# Altium footprint library Package_TO_SOT_THT.PcbLib: 236 footprints (part 12 of 15)
Each footprint in its own frame and in the unit in brackets; x right, y up, seen from the top. Pads: shape width x height; smd on the part's side, far side on the other; paste and mask are expansions set on the pad; w line width, h text height; cw(c..) or ccw(c..) is an arc to the next point about the centre after c.
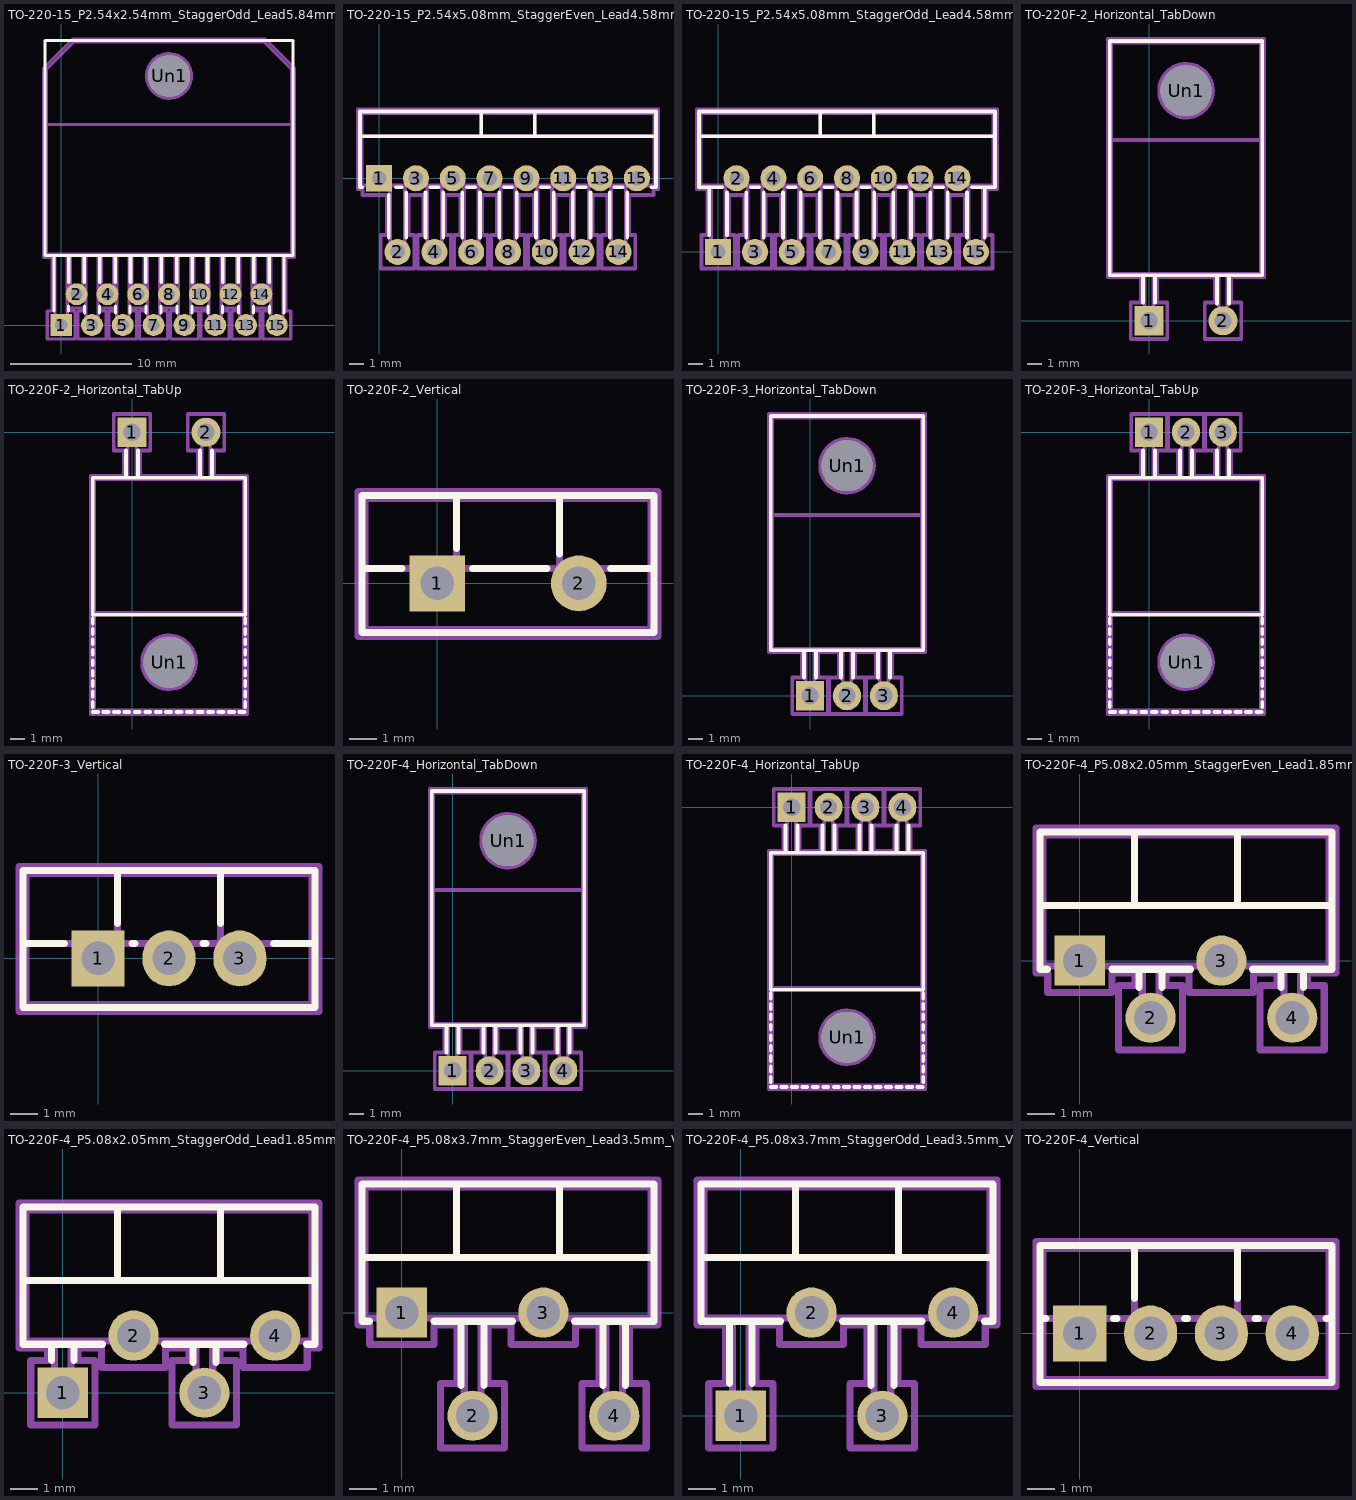
[diagram p11: the footprints below, top view; thin cyan lines are the x and y axes]

## TO-220-15_P2.54x2.54mm_StaggerOdd_Lead5.84mm_TabDown [mm]
pads (16):
  rect 1.8x1.8 hole 1: 1(0,0)
  round 1.8 hole 1: 2(1.27,2.54) 3(2.54,0) 4(3.81,2.54) 5(5.08,0) 6(6.35,2.54) 7(7.62,0) 8(8.89,2.54) 9(10.16,0) 10(11.43,2.54) 11(12.7,0) 12(13.97,2.54) 13(15.24,0) 14(16.51,2.54) 15(17.78,0)
  round 3.5 hole 3.5: Un1(8.89,20.54)
F.SilkS:
  lines w0.254: -0.61,1.16 -0.61,5.73 ; 0.61,1.16 0.61,1.586 ; 0.61,3.494 0.61,5.73 ; 0.66,3.527 0.66,5.73 ; 1.88,3.527 1.88,5.73 ; 1.93,0.987 1.93,1.586 ; 1.93,3.494 1.93,5.73 ; 3.15,0.987 3.15,1.586 ; 3.15,3.494 3.15,5.73 ; 3.2,3.527 3.2,5.73 ; 4.42,3.527 4.42,5.73 ; 4.47,0.987 4.47,1.586 ; 4.47,3.494 4.47,5.73 ; 5.69,0.987 5.69,1.586 ; 5.69,3.494 5.69,5.73 ; 5.74,3.527 5.74,5.73 ; 6.96,3.527 6.96,5.73 ; 7.01,0.987 7.01,1.586 ; 7.01,3.494 7.01,5.73 ; 8.23,0.987 8.23,1.586 ; 8.23,3.494 8.23,5.73 ; 8.28,3.527 8.28,5.73 ; 9.5,3.527 9.5,5.73 ; 9.55,0.987 9.55,1.586 ; 9.55,3.494 9.55,5.73 ; 10.77,0.987 10.77,1.586 ; 10.77,3.494 10.77,5.73 ; 10.82,3.527 10.82,5.73 ; 12.04,3.527 12.04,5.73 ; 12.09,0.987 12.09,1.586 ; 12.09,3.494 12.09,5.73 ; 13.31,0.987 13.31,1.586 ; 13.31,3.494 13.31,5.73 ; 13.36,3.527 13.36,5.73 ; 14.58,3.527 14.58,5.73 ; 14.63,0.987 14.63,1.586 ; 14.63,3.494 14.63,5.73 ; 15.85,0.987 15.85,1.586 ; 15.85,3.494 15.85,5.73 ; 15.9,3.527 15.9,5.73 ; 17.12,3.527 17.12,5.73 ; 17.17,0.987 17.17,1.586 ; 17.17,3.494 17.17,5.73 ; 18.39,0.987 18.39,5.73 ; -1.32,5.73 -1.32,23.45 19.1,23.45 19.1,5.73 -1.32,5.73
F.Fab:
  circle w0.254: c8.89,20.54 r1.85
  lines w0.254: -1.21,16.54 -1.21,21.09 1.04,23.34 16.74,23.34 18.99,21.09 18.99,16.54 ; -1.21,16.54 18.99,16.54 ; -1.21,16.54 -1.21,5.84 18.99,5.84 18.99,16.54 ; -1.21,16.54 18.99,16.54 ; -0.5,0 -0.5,5.84 0.5,5.84 0.5,0 -0.5,0 ; 0.77,2.54 0.77,5.84 1.77,5.84 1.77,2.54 0.77,2.54 ; 2.04,0 2.04,5.84 3.04,5.84 3.04,0 2.04,0 ; 3.31,2.54 3.31,5.84 4.31,5.84 4.31,2.54 3.31,2.54 ; 4.58,0 4.58,5.84 5.58,5.84 5.58,0 4.58,0 ; 5.85,2.54 5.85,5.84 6.85,5.84 6.85,2.54 5.85,2.54 ; 7.12,0 7.12,5.84 8.12,5.84 8.12,0 7.12,0 ; 8.39,2.54 8.39,5.84 9.39,5.84 9.39,2.54 8.39,2.54 ; 9.66,0 9.66,5.84 10.66,5.84 10.66,0 9.66,0 ; 10.93,2.54 10.93,5.84 11.93,5.84 11.93,2.54 10.93,2.54 ; 12.2,0 12.2,5.84 13.2,5.84 13.2,0 12.2,0 ; 13.47,2.54 13.47,5.84 14.47,5.84 14.47,2.54 13.47,2.54 ; 14.74,0 14.74,5.84 15.74,5.84 15.74,0 14.74,0 ; 16.01,2.54 16.01,5.84 17.01,5.84 17.01,2.54 16.01,2.54 ; 17.28,0 17.28,5.84 18.28,5.84 18.28,0 17.28,0
  text "'.Designator'" at 4.843,10.38 h1
F.CrtYd:
  lines w0.254: -1.46,5.59 -1.46,21.2 0.93,23.59 16.85,23.59 19.24,21.2 19.24,5.59 18.53,5.59 18.53,1.15 18.93,1.15 18.93,-1.15 16.62,-1.15 16.62,1.15 17.02,1.15 17.02,1.39 15.99,1.39 15.99,1.15 16.39,1.15 16.39,-1.15 14.08,-1.15 14.08,1.15 14.48,1.15 14.48,1.39 13.45,1.39 13.45,1.15 13.85,1.15 13.85,-1.15 11.54,-1.15 11.54,1.15 11.94,1.15 11.94,1.39 10.91,1.39 10.91,1.15 11.31,1.15 11.31,-1.15 9,-1.15 9,1.15 9.4,1.15 9.4,1.39 8.37,1.39 8.37,1.15 8.77,1.15 8.77,-1.15 6.46,-1.15 6.46,1.15 6.86,1.15 6.86,1.39 5.83,1.39 5.83,1.15 6.23,1.15 6.23,-1.15 3.92,-1.15 3.92,1.15 4.33,1.15 4.33,1.39 3.29,1.39 3.29,1.15 3.69,1.15 3.69,-1.15 1.39,-1.15 1.39,1.15 1.79,1.15 1.79,1.39 0.75,1.39 0.75,1.15 1.15,1.15 1.15,-1.15 -1.15,-1.15 -1.15,1.15 -0.75,1.15 -0.75,5.59 -1.46,5.59

## TO-220-15_P2.54x5.08mm_StaggerEven_Lead4.58mm_Vertical [mm]
pads (15):
  rect 1.8x1.8 hole 1: 1(0,0)
  round 1.8 hole 1: 2(1.27,-5.08) 3(2.54,0) 4(3.81,-5.08) 5(5.08,0) 6(6.35,-5.08) 7(7.62,0) 8(8.89,-5.08) 9(10.16,0) 10(11.43,-5.08) 11(12.7,0) 12(13.97,-5.08) 13(15.24,0) 14(16.51,-5.08) 15(17.78,0)
F.SilkS:
  lines w0.254: -1.32,2.9 19.1,2.9 ; -1.16,-0.61 -1.32,-0.61 -1.32,4.61 19.1,4.61 19.1,-0.61 18.767,-0.61 ; 0.66,-4.093 0.66,-1.16 ; 1.16,-0.61 1.553,-0.61 ; 1.88,-4.093 1.88,-0.954 ; 3.2,-4.093 3.2,-0.954 ; 3.527,-0.61 4.093,-0.61 ; 4.42,-4.093 4.42,-0.954 ; 5.74,-4.093 5.74,-0.954 ; 6.067,-0.61 6.633,-0.61 ; 6.96,-4.093 6.96,-0.954 ; 7.04,2.9 7.04,4.61 ; 8.28,-4.093 8.28,-0.954 ; 8.607,-0.61 9.173,-0.61 ; 9.5,-4.093 9.5,-0.954 ; 10.74,2.9 10.74,4.61 ; 10.82,-4.093 10.82,-0.954 ; 11.147,-0.61 11.713,-0.61 ; 12.04,-4.093 12.04,-0.954 ; 13.36,-4.093 13.36,-0.954 ; 13.687,-0.61 14.253,-0.61 ; 14.58,-4.093 14.58,-0.954 ; 15.9,-4.093 15.9,-0.954 ; 16.227,-0.61 16.793,-0.61 ; 17.12,-4.093 17.12,-0.954
F.Fab:
  lines w0.254: -1.21,2.9 18.99,2.9 ; 7.04,2.9 7.04,4.5 ; 10.74,2.9 10.74,4.5 ; -1.21,-0.5 -1.21,4.5 18.99,4.5 18.99,-0.5 -1.21,-0.5 ; 0.77,-5.08 0.77,-0.5 1.77,-0.5 1.77,-5.08 0.77,-5.08 ; 3.31,-5.08 3.31,-0.5 4.31,-0.5 4.31,-5.08 3.31,-5.08 ; 5.85,-5.08 5.85,-0.5 6.85,-0.5 6.85,-5.08 5.85,-5.08 ; 8.39,-5.08 8.39,-0.5 9.39,-0.5 9.39,-5.08 8.39,-5.08 ; 10.93,-5.08 10.93,-0.5 11.93,-0.5 11.93,-5.08 10.93,-5.08 ; 13.47,-5.08 13.47,-0.5 14.47,-0.5 14.47,-5.08 13.47,-5.08 ; 16.01,-5.08 16.01,-0.5 17.01,-0.5 17.01,-5.08 16.01,-5.08
  text "'.Designator'" at 4.843,1.16 h1
F.CrtYd:
  lines w0.254: -1.46,-0.75 -1.46,4.75 19.24,4.75 19.24,-0.75 18.93,-0.75 18.93,-1.15 17.26,-1.15 17.26,-3.92 17.66,-3.92 17.66,-6.23 15.35,-6.23 15.35,-3.92 15.75,-3.92 15.75,-1.15 14.72,-1.15 14.72,-3.92 15.12,-3.92 15.12,-6.23 12.81,-6.23 12.81,-3.92 13.21,-3.92 13.21,-1.15 12.18,-1.15 12.18,-3.92 12.58,-3.92 12.58,-6.23 10.27,-6.23 10.27,-3.92 10.67,-3.92 10.67,-1.15 9.64,-1.15 9.64,-3.92 10.04,-3.92 10.04,-6.23 7.73,-6.23 7.73,-3.92 8.13,-3.92 8.13,-1.15 7.1,-1.15 7.1,-3.92 7.5,-3.92 7.5,-6.23 5.19,-6.23 5.19,-3.92 5.6,-3.92 5.6,-1.15 4.56,-1.15 4.56,-3.92 4.96,-3.92 4.96,-6.23 2.66,-6.23 2.66,-3.92 3.06,-3.92 3.06,-1.15 2.02,-1.15 2.02,-3.92 2.42,-3.92 2.42,-6.23 0.12,-6.23 0.12,-3.92 0.52,-3.92 0.52,-1.15 -1.15,-1.15 -1.15,-0.75 -1.46,-0.75

## TO-220-15_P2.54x5.08mm_StaggerOdd_Lead4.58mm_Vertical [mm]
pads (15):
  rect 1.8x1.8 hole 1: 1(0,0)
  round 1.8 hole 1: 2(1.27,5.08) 3(2.54,0) 4(3.81,5.08) 5(5.08,0) 6(6.35,5.08) 7(7.62,0) 8(8.89,5.08) 9(10.16,0) 10(11.43,5.08) 11(12.7,0) 12(13.97,5.08) 13(15.24,0) 14(16.51,5.08) 15(17.78,0)
F.SilkS:
  lines w0.254: -1.32,7.98 19.1,7.98 ; -0.61,1.16 -0.61,4.47 ; 0.283,4.47 -1.32,4.47 -1.32,9.69 19.1,9.69 19.1,4.47 17.497,4.47 ; 0.61,1.16 0.61,4.126 ; 1.93,0.987 1.93,4.126 ; 2.257,4.47 2.823,4.47 ; 3.15,0.987 3.15,4.126 ; 4.47,0.987 4.47,4.126 ; 4.797,4.47 5.363,4.47 ; 5.69,0.987 5.69,4.126 ; 7.01,0.987 7.01,4.126 ; 7.04,7.98 7.04,9.69 ; 7.337,4.47 7.903,4.47 ; 8.23,0.987 8.23,4.126 ; 9.55,0.987 9.55,4.126 ; 9.877,4.47 10.443,4.47 ; 10.74,7.98 10.74,9.69 ; 10.77,0.987 10.77,4.126 ; 12.09,0.987 12.09,4.126 ; 12.417,4.47 12.983,4.47 ; 13.31,0.987 13.31,4.126 ; 14.63,0.987 14.63,4.126 ; 14.957,4.47 15.523,4.47 ; 15.85,0.987 15.85,4.126 ; 17.17,0.987 17.17,4.126 ; 18.39,0.987 18.39,4.47
F.Fab:
  lines w0.254: -1.21,7.98 18.99,7.98 ; 7.04,7.98 7.04,9.58 ; 10.74,7.98 10.74,9.58 ; -1.21,4.58 -1.21,9.58 18.99,9.58 18.99,4.58 -1.21,4.58 ; -0.5,0 -0.5,4.58 0.5,4.58 0.5,0 -0.5,0 ; 2.04,0 2.04,4.58 3.04,4.58 3.04,0 2.04,0 ; 4.58,0 4.58,4.58 5.58,4.58 5.58,0 4.58,0 ; 7.12,0 7.12,4.58 8.12,4.58 8.12,0 7.12,0 ; 9.66,0 9.66,4.58 10.66,4.58 10.66,0 9.66,0 ; 12.2,0 12.2,4.58 13.2,4.58 13.2,0 12.2,0 ; 14.74,0 14.74,4.58 15.74,4.58 15.74,0 14.74,0 ; 17.28,0 17.28,4.58 18.28,4.58 18.28,0 17.28,0
  text "'.Designator'" at 4.843,6.24 h1
F.CrtYd:
  lines w0.254: -1.46,4.33 -1.46,9.83 19.24,9.83 19.24,4.33 18.53,4.33 18.53,1.16 18.93,1.16 18.93,-1.15 16.62,-1.15 16.62,1.16 17.02,1.16 17.02,3.93 15.99,3.93 15.99,1.16 16.39,1.16 16.39,-1.15 14.08,-1.15 14.08,1.16 14.48,1.16 14.48,3.93 13.45,3.93 13.45,1.16 13.85,1.16 13.85,-1.15 11.54,-1.15 11.54,1.16 11.94,1.16 11.94,3.93 10.91,3.93 10.91,1.16 11.31,1.16 11.31,-1.15 9,-1.15 9,1.16 9.4,1.16 9.4,3.93 8.37,3.93 8.37,1.16 8.77,1.16 8.77,-1.15 6.46,-1.15 6.46,1.16 6.86,1.16 6.86,3.93 5.83,3.93 5.83,1.16 6.23,1.16 6.23,-1.15 3.92,-1.15 3.92,1.16 4.33,1.16 4.33,3.93 3.29,3.93 3.29,1.16 3.69,1.16 3.69,-1.15 1.39,-1.15 1.39,1.16 1.79,1.16 1.79,3.93 0.75,3.93 0.75,1.16 1.15,1.16 1.15,-1.15 -1.15,-1.15 -1.15,1.16 -0.75,1.16 -0.75,4.33 -1.46,4.33

## TO-220F-2_Horizontal_TabDown [mm]
pads (3):
  rect 2x2 hole 1.2: 1(0,0)
  round 2 hole 1.2: 2(5.08,0)
  round 3.5 hole 3.5: Un1(2.54,15.8)
F.SilkS:
  lines w0.254: -0.41,1.26 -0.41,3.12 ; 0.41,1.26 0.41,3.12 ; 4.67,1.191 4.67,3.12 ; 5.49,1.191 5.49,3.12 ; -2.7,3.12 -2.7,19.21 7.78,19.21 7.78,3.12 -2.7,3.12
F.Fab:
  circle w0.254: c2.54,15.8 r1.85
  lines w0.254: -2.59,12.42 -2.59,19.1 7.67,19.1 7.67,12.42 ; -2.59,12.42 7.67,12.42 ; -2.59,12.42 -2.59,3.23 7.67,3.23 7.67,12.42 ; -2.59,12.42 7.67,12.42 ; -0.3,0 -0.3,3.23 0.3,3.23 0.3,0 -0.3,0 ; 4.78,0 4.78,3.23 5.38,3.23 5.38,0 4.78,0
  text "'.Designator'" at -1.507,8.21 h1
F.CrtYd:
  lines w0.254: -2.84,2.98 -2.84,19.35 7.92,19.35 7.92,2.98 5.63,2.98 5.63,1.25 6.33,1.25 6.33,-1.25 3.83,-1.25 3.83,1.25 4.53,1.25 4.53,2.98 0.55,2.98 0.55,1.25 1.25,1.25 1.25,-1.25 -1.25,-1.25 -1.25,1.25 -0.55,1.25 -0.55,2.98 -2.84,2.98

## TO-220F-2_Horizontal_TabUp [mm]
pads (3):
  rect 2x2 hole 1.2: 1(0,0)
  round 2 hole 1.2: 2(5.08,0)
  round 3.5 hole 3.5: Un1(2.54,-15.8)
F.SilkS:
  lines w0.254: -2.7,-19.21 -2.34,-19.21 ; -2.7,-18.89 -2.7,-18.53 ; -2.7,-18.17 -2.7,-17.81 ; -2.7,-17.45 -2.7,-17.09 ; -2.7,-16.73 -2.7,-16.37 ; -2.7,-16.01 -2.7,-15.65 ; -2.7,-15.29 -2.7,-14.93 ; -2.7,-14.57 -2.7,-14.21 ; -2.7,-13.85 -2.7,-13.49 ; -2.7,-13.13 -2.7,-12.77 ; -1.98,-19.21 -1.62,-19.21 ; -1.26,-19.21 -0.9,-19.21 ; -0.54,-19.21 -0.18,-19.21 ; -0.41,-3.12 -0.41,-1.26 ; 0.18,-19.21 0.54,-19.21 ; 0.41,-3.12 0.41,-1.26 ; 0.9,-19.21 1.26,-19.21 ; 1.62,-19.21 1.98,-19.21 ; 2.34,-19.21 2.7,-19.21 ; 3.06,-19.21 3.42,-19.21 ; 3.78,-19.21 4.14,-19.21 ; 4.5,-19.21 4.86,-19.21 ; 4.67,-3.12 4.67,-1.26 ; 5.22,-19.21 5.58,-19.21 ; 5.49,-3.12 5.49,-1.26 ; 5.94,-19.21 6.3,-19.21 ; 6.66,-19.21 7.02,-19.21 ; 7.38,-19.21 7.74,-19.21 ; 7.78,-18.89 7.78,-18.53 ; 7.78,-18.17 7.78,-17.81 ; 7.78,-17.45 7.78,-17.09 ; 7.78,-16.73 7.78,-16.37 ; 7.78,-16.01 7.78,-15.65 ; 7.78,-15.29 7.78,-14.93 ; 7.78,-14.57 7.78,-14.21 ; 7.78,-13.85 7.78,-13.49 ; 7.78,-13.13 7.78,-12.77 ; -2.7,-12.53 7.78,-12.53 7.78,-3.12 -2.7,-3.12 -2.7,-12.53
F.Fab:
  circle w0.254: c2.54,-15.8 r1.85
  lines w0.254: -2.59,-12.42 7.67,-12.42 ; -2.59,-12.42 -2.59,-19.1 7.67,-19.1 7.67,-12.42 ; -2.59,-12.42 7.67,-12.42 ; -2.59,-12.42 -2.59,-3.23 7.67,-3.23 7.67,-12.42 ; -0.3,-3.23 0.3,-3.23 0.3,0 -0.3,0 -0.3,-3.23 ; 4.78,-3.23 5.38,-3.23 5.38,0 4.78,0 4.78,-3.23
  text "'.Designator'" at -1.507,-9.89 h1
F.CrtYd:
  lines w0.254: -2.84,-19.35 7.92,-19.35 7.92,-2.98 5.63,-2.98 5.63,-1.25 6.33,-1.25 6.33,1.25 3.83,1.25 3.83,-1.25 4.53,-1.25 4.53,-2.98 0.55,-2.98 0.55,-1.25 1.25,-1.25 1.25,1.25 -1.25,1.25 -1.25,-1.25 -0.55,-1.25 -0.55,-2.98 -2.84,-2.98 -2.84,-19.35

## TO-220F-2_Vertical [mm]
pads (2):
  rect 2x2 hole 1.2: 1(0,0)
  round 2 hole 1.2: 2(5.08,0)
F.SilkS:
  lines w0.254: -2.7,0.527 -1.26,0.527 ; 0.69,1.26 0.69,3.157 ; 1.26,0.527 3.936,0.527 ; 4.39,1.054 4.39,3.157 ; 6.224,0.527 7.78,0.527 ; -2.7,-1.763 -2.7,3.157 7.78,3.157 7.78,-1.763 -2.7,-1.763
F.Fab:
  lines w0.254: -2.59,0.527 7.67,0.527 ; 0.69,0.527 0.69,3.047 ; 4.39,0.527 4.39,3.047 ; -2.59,-1.653 -2.59,3.047 7.67,3.047 7.67,-1.653 -2.59,-1.653
  text "'.Designator'" at -1.507,-0.14 h1
F.CrtYd:
  lines w0.254: -2.84,-1.91 -2.84,3.3 7.92,3.3 7.92,-1.91 -2.84,-1.91
3D body "TO-220F-2_Vertical.step": height 19.1, standoff -9.75, extent -2.54,-1.415 7.62,3.285

## TO-220F-3_Horizontal_TabDown [mm]
pads (4):
  rect 1.905x2 hole 1.2: 1(0,0)
  rrect100% 1.905x2 hole 1.2: 2(2.54,0) 3(5.08,0)
  round 3.5 hole 3.5: Un1(2.54,15.8)
F.SilkS:
  lines w0.254: -0.41,1.26 -0.41,3.12 ; 0.41,1.26 0.41,3.12 ; 2.13,1.26 2.13,3.12 ; 2.95,1.26 2.95,3.12 ; 4.67,1.26 4.67,3.12 ; 5.49,1.26 5.49,3.12 ; -2.7,3.12 7.78,3.12 7.78,19.21 -2.7,19.21 -2.7,3.12
F.Fab:
  circle w0.254: c2.54,15.8 r1.85
  lines w0.254: -2.59,12.42 7.67,12.42 ; -2.59,12.42 -2.59,3.23 7.67,3.23 7.67,12.42 ; -2.59,12.42 7.67,12.42 ; -2.59,12.42 -2.59,19.1 7.67,19.1 7.67,12.42 ; -0.3,0 0.3,0 0.3,3.23 -0.3,3.23 -0.3,0 ; 2.24,0 2.84,0 2.84,3.23 2.24,3.23 2.24,0 ; 4.78,0 5.38,0 5.38,3.23 4.78,3.23 4.78,0
  text "'.Designator'" at -1.507,8.21 h1
F.CrtYd:
  lines w0.254: -2.84,2.98 -0.55,2.98 -0.55,1.25 -1.21,1.25 -1.21,-1.25 1.21,-1.25 1.21,1.25 0.55,1.25 0.55,2.98 1.99,2.98 1.99,1.25 1.33,1.25 1.33,-1.25 3.75,-1.25 3.75,1.25 3.09,1.25 3.09,2.98 4.53,2.98 4.53,1.25 3.87,1.25 3.87,-1.25 6.29,-1.25 6.29,1.25 5.63,1.25 5.63,2.98 7.92,2.98 7.92,19.35 -2.84,19.35 -2.84,2.98

## TO-220F-3_Horizontal_TabUp [mm]
pads (4):
  rect 1.905x2 hole 1.2: 1(0,0)
  rrect100% 1.905x2 hole 1.2: 2(2.54,0) 3(5.08,0)
  round 3.5 hole 3.5: Un1(2.54,-15.8)
F.SilkS:
  lines w0.254: -2.7,-19.21 -2.34,-19.21 ; -2.7,-18.89 -2.7,-18.53 ; -2.7,-18.17 -2.7,-17.81 ; -2.7,-17.45 -2.7,-17.09 ; -2.7,-16.73 -2.7,-16.37 ; -2.7,-16.01 -2.7,-15.65 ; -2.7,-15.29 -2.7,-14.93 ; -2.7,-14.57 -2.7,-14.21 ; -2.7,-13.85 -2.7,-13.49 ; -2.7,-13.13 -2.7,-12.77 ; -1.98,-19.21 -1.62,-19.21 ; -1.26,-19.21 -0.9,-19.21 ; -0.54,-19.21 -0.18,-19.21 ; -0.41,-3.12 -0.41,-1.26 ; 0.18,-19.21 0.54,-19.21 ; 0.41,-3.12 0.41,-1.26 ; 0.9,-19.21 1.26,-19.21 ; 1.62,-19.21 1.98,-19.21 ; 2.13,-3.12 2.13,-1.26 ; 2.34,-19.21 2.7,-19.21 ; 2.95,-3.12 2.95,-1.26 ; 3.06,-19.21 3.42,-19.21 ; 3.78,-19.21 4.14,-19.21 ; 4.5,-19.21 4.86,-19.21 ; 4.67,-3.12 4.67,-1.26 ; 5.22,-19.21 5.58,-19.21 ; 5.49,-3.12 5.49,-1.26 ; 5.94,-19.21 6.3,-19.21 ; 6.66,-19.21 7.02,-19.21 ; 7.38,-19.21 7.74,-19.21 ; 7.78,-18.89 7.78,-18.53 ; 7.78,-18.17 7.78,-17.81 ; 7.78,-17.45 7.78,-17.09 ; 7.78,-16.73 7.78,-16.37 ; 7.78,-16.01 7.78,-15.65 ; 7.78,-15.29 7.78,-14.93 ; 7.78,-14.57 7.78,-14.21 ; 7.78,-13.85 7.78,-13.49 ; 7.78,-13.13 7.78,-12.77 ; -2.7,-12.53 7.78,-12.53 7.78,-3.12 -2.7,-3.12 -2.7,-12.53
F.Fab:
  circle w0.254: c2.54,-15.8 r1.85
  lines w0.254: -2.59,-12.42 7.67,-12.42 ; -2.59,-12.42 -2.59,-19.1 7.67,-19.1 7.67,-12.42 ; -2.59,-12.42 7.67,-12.42 ; -2.59,-12.42 -2.59,-3.23 7.67,-3.23 7.67,-12.42 ; -0.3,-3.23 0.3,-3.23 0.3,0 -0.3,0 -0.3,-3.23 ; 2.24,-3.23 2.84,-3.23 2.84,0 2.24,0 2.24,-3.23 ; 4.78,-3.23 5.38,-3.23 5.38,0 4.78,0 4.78,-3.23
  text "'.Designator'" at -1.507,-9.89 h1
F.CrtYd:
  lines w0.254: -2.84,-19.35 7.92,-19.35 7.92,-2.98 5.63,-2.98 5.63,-1.25 6.29,-1.25 6.29,1.25 3.87,1.25 3.87,-1.25 4.53,-1.25 4.53,-2.98 3.09,-2.98 3.09,-1.25 3.75,-1.25 3.75,1.25 1.33,1.25 1.33,-1.25 1.99,-1.25 1.99,-2.98 0.55,-2.98 0.55,-1.25 1.21,-1.25 1.21,1.25 -1.21,1.25 -1.21,-1.25 -0.55,-1.25 -0.55,-2.98 -2.84,-2.98 -2.84,-19.35

## TO-220F-3_Vertical [mm]
pads (3):
  rect 1.905x2 hole 1.2: 1(0,0)
  rrect100% 1.905x2 hole 1.2: 2(2.54,0) 3(5.08,0)
F.SilkS:
  lines w0.254: -2.7,0.527 -1.212,0.527 ; 0.69,1.26 0.69,3.157 ; 1.212,0.527 1.327,0.528 ; 3.752,0.528 3.867,0.528 ; 4.39,1.26 4.39,3.157 ; 6.292,0.528 7.78,0.527 ; -2.7,-1.763 -2.7,3.157 7.78,3.157 7.78,-1.763 -2.7,-1.763
F.Fab:
  lines w0.254: -2.59,0.527 7.67,0.527 ; 0.69,0.527 0.69,3.047 ; 4.39,0.527 4.39,3.047 ; -2.59,-1.653 -2.59,3.047 7.67,3.047 7.67,-1.653 -2.59,-1.653
  text "'.Designator'" at -1.507,-0.14 h1
F.CrtYd:
  lines w0.254: -2.84,-1.91 -2.84,3.3 7.92,3.3 7.92,-1.91 -2.84,-1.91
3D body "TO-220F-3_Vertical.step": height 19.1, standoff -9.75, extent -2.54,-1.415 7.62,3.285

## TO-220F-4_Horizontal_TabDown [mm]
pads (5):
  rect 1.905x2 hole 1.2: 1(0,0)
  rrect100% 1.905x2 hole 1.2: 2(2.54,0) 3(5.08,0) 4(7.62,0)
  round 3.5 hole 3.5: Un1(3.81,15.8)
F.SilkS:
  lines w0.254: -0.41,1.26 -0.41,3.12 ; 0.41,1.26 0.41,3.12 ; 2.13,1.26 2.13,3.12 ; 2.95,1.26 2.95,3.12 ; 4.67,1.26 4.67,3.12 ; 5.49,1.26 5.49,3.12 ; 7.21,1.26 7.21,3.12 ; 8.03,1.26 8.03,3.12 ; -1.43,3.12 -1.43,19.21 9.05,19.21 9.05,3.12 -1.43,3.12
F.Fab:
  circle w0.254: c3.81,15.8 r1.85
  lines w0.254: -1.32,12.42 -1.32,19.1 8.94,19.1 8.94,12.42 ; -1.32,12.42 8.94,12.42 ; -1.32,12.42 -1.32,3.23 8.94,3.23 8.94,12.42 ; -1.32,12.42 8.94,12.42 ; -0.3,0 -0.3,3.23 0.3,3.23 0.3,0 -0.3,0 ; 2.24,0 2.24,3.23 2.84,3.23 2.84,0 2.24,0 ; 4.78,0 4.78,3.23 5.38,3.23 5.38,0 4.78,0 ; 7.32,0 7.32,3.23 7.92,3.23 7.92,0 7.32,0
  text "'.Designator'" at -0.237,8.21 h1
F.CrtYd:
  lines w0.254: -1.57,2.98 -1.57,19.35 9.19,19.35 9.19,2.98 8.17,2.98 8.17,1.25 8.83,1.25 8.83,-1.25 6.41,-1.25 6.41,1.25 7.07,1.25 7.07,2.98 5.63,2.98 5.63,1.25 6.29,1.25 6.29,-1.25 3.87,-1.25 3.87,1.25 4.53,1.25 4.53,2.98 3.09,2.98 3.09,1.25 3.75,1.25 3.75,-1.25 1.33,-1.25 1.33,1.25 1.99,1.25 1.99,2.98 0.55,2.98 0.55,1.25 1.21,1.25 1.21,-1.25 -1.21,-1.25 -1.21,1.25 -0.55,1.25 -0.55,2.98 -1.57,2.98

## TO-220F-4_Horizontal_TabUp [mm]
pads (5):
  rect 1.905x2 hole 1.2: 1(0,0)
  rrect100% 1.905x2 hole 1.2: 2(2.54,0) 3(5.08,0) 4(7.62,0)
  round 3.5 hole 3.5: Un1(3.81,-15.8)
F.SilkS:
  lines w0.254: -1.43,-19.21 -1.07,-19.21 ; -1.43,-18.89 -1.43,-18.53 ; -1.43,-18.17 -1.43,-17.81 ; -1.43,-17.45 -1.43,-17.09 ; -1.43,-16.73 -1.43,-16.37 ; -1.43,-16.01 -1.43,-15.65 ; -1.43,-15.29 -1.43,-14.93 ; -1.43,-14.57 -1.43,-14.21 ; -1.43,-13.85 -1.43,-13.49 ; -1.43,-13.13 -1.43,-12.77 ; -0.71,-19.21 -0.35,-19.21 ; -0.41,-3.12 -0.41,-1.26 ; 0.01,-19.21 0.37,-19.21 ; 0.41,-3.12 0.41,-1.26 ; 0.73,-19.21 1.09,-19.21 ; 1.45,-19.21 1.81,-19.21 ; 2.13,-3.12 2.13,-1.26 ; 2.17,-19.21 2.53,-19.21 ; 2.89,-19.21 3.25,-19.21 ; 2.95,-3.12 2.95,-1.26 ; 3.61,-19.21 3.97,-19.21 ; 4.33,-19.21 4.69,-19.21 ; 4.67,-3.12 4.67,-1.26 ; 5.05,-19.21 5.41,-19.21 ; 5.49,-3.12 5.49,-1.26 ; 5.77,-19.21 6.13,-19.21 ; 6.49,-19.21 6.85,-19.21 ; 7.21,-19.21 7.57,-19.21 ; 7.21,-3.12 7.21,-1.26 ; 7.93,-19.21 8.29,-19.21 ; 8.03,-3.12 8.03,-1.26 ; 8.65,-19.21 9.01,-19.21 ; 9.05,-18.89 9.05,-18.53 ; 9.05,-18.17 9.05,-17.81 ; 9.05,-17.45 9.05,-17.09 ; 9.05,-16.73 9.05,-16.37 ; 9.05,-16.01 9.05,-15.65 ; 9.05,-15.29 9.05,-14.93 ; 9.05,-14.57 9.05,-14.21 ; 9.05,-13.85 9.05,-13.49 ; 9.05,-13.13 9.05,-12.77 ; -1.43,-12.53 -1.43,-3.12 9.05,-3.12 9.05,-12.53 -1.43,-12.53
F.Fab:
  circle w0.254: c3.81,-15.8 r1.85
  lines w0.254: -1.32,-12.42 -1.32,-3.23 8.94,-3.23 8.94,-12.42 ; -1.32,-12.42 8.94,-12.42 ; -1.32,-12.42 -1.32,-19.1 8.94,-19.1 8.94,-12.42 ; -1.32,-12.42 8.94,-12.42 ; -0.3,-3.23 -0.3,0 0.3,0 0.3,-3.23 -0.3,-3.23 ; 2.24,-3.23 2.24,0 2.84,0 2.84,-3.23 2.24,-3.23 ; 4.78,-3.23 4.78,0 5.38,0 5.38,-3.23 4.78,-3.23 ; 7.32,-3.23 7.32,0 7.92,0 7.92,-3.23 7.32,-3.23
  text "'.Designator'" at -0.237,-9.89 h1
F.CrtYd:
  lines w0.254: -1.57,-19.35 -1.57,-2.98 -0.55,-2.98 -0.55,-1.25 -1.21,-1.25 -1.21,1.25 1.21,1.25 1.21,-1.25 0.55,-1.25 0.55,-2.98 1.99,-2.98 1.99,-1.25 1.33,-1.25 1.33,1.25 3.75,1.25 3.75,-1.25 3.09,-1.25 3.09,-2.98 4.53,-2.98 4.53,-1.25 3.87,-1.25 3.87,1.25 6.29,1.25 6.29,-1.25 5.63,-1.25 5.63,-2.98 7.07,-2.98 7.07,-1.25 6.41,-1.25 6.41,1.25 8.83,1.25 8.83,-1.25 8.17,-1.25 8.17,-2.98 9.19,-2.98 9.19,-19.35 -1.57,-19.35

## TO-220F-4_P5.08x2.05mm_StaggerEven_Lead1.85mm_Vertical [mm]
pads (4):
  rect 1.8x1.8 hole 1.2: 1(0,0)
  round 1.8 hole 1.2: 2(2.54,-2.05) 3(5.08,0) 4(7.62,-2.05)
F.SilkS:
  lines w0.254: -1.43,1.98 9.05,1.98 ; -1.16,-0.31 -1.43,-0.31 -1.43,4.61 9.05,4.61 9.05,-0.31 6.198,-0.31 ; 1.16,-0.31 3.962,-0.31 ; 1.96,1.98 1.96,4.61 ; 2.13,-0.965 2.13,-0.31 ; 2.95,-0.965 2.95,-0.31 ; 5.66,1.98 5.66,4.61 ; 7.21,-0.965 7.21,-0.31 ; 8.03,-0.965 8.03,-0.31
F.Fab:
  lines w0.254: -1.32,1.98 8.94,1.98 ; 1.96,1.98 1.96,4.5 ; 5.66,1.98 5.66,4.5 ; -1.32,-0.2 -1.32,4.5 8.94,4.5 8.94,-0.2 -1.32,-0.2 ; 2.24,-2.05 2.24,-0.2 2.84,-0.2 2.84,-2.05 2.24,-2.05 ; 7.32,-2.05 7.32,-0.2 7.92,-0.2 7.92,-2.05 7.32,-2.05
  text "'.Designator'" at -0.237,1.31 h1
F.CrtYd:
  lines w0.254: -1.57,-0.45 -1.57,4.75 9.19,4.75 9.19,-0.45 8.17,-0.45 8.17,-0.89 8.77,-0.89 8.77,-3.2 6.47,-3.2 6.47,-0.89 7.07,-0.89 7.07,-0.45 6.23,-0.45 6.23,-1.15 3.92,-1.15 3.92,-0.45 3.09,-0.45 3.09,-0.89 3.69,-0.89 3.69,-3.2 1.39,-3.2 1.39,-0.89 1.99,-0.89 1.99,-0.45 1.15,-0.45 1.15,-1.15 -1.15,-1.15 -1.15,-0.45 -1.57,-0.45

## TO-220F-4_P5.08x2.05mm_StaggerOdd_Lead1.85mm_Vertical [mm]
pads (4):
  rect 1.8x1.8 hole 1.2: 1(0,0)
  round 1.8 hole 1.2: 2(2.54,2.05) 3(5.08,0) 4(7.62,2.05)
F.SilkS:
  lines w0.254: -1.43,4.03 9.05,4.03 ; -0.41,1.16 -0.41,1.74 ; 0.41,1.16 0.41,1.74 ; 1.422,1.74 -1.43,1.74 -1.43,6.66 9.05,6.66 9.05,1.74 8.738,1.74 ; 1.96,4.03 1.96,6.66 ; 3.658,1.74 6.502,1.74 ; 4.67,1.085 4.67,1.74 ; 5.49,1.085 5.49,1.74 ; 5.66,4.03 5.66,6.66
F.Fab:
  lines w0.254: -1.32,4.03 8.94,4.03 ; 1.96,4.03 1.96,6.55 ; 5.66,4.03 5.66,6.55 ; -1.32,1.85 -1.32,6.55 8.94,6.55 8.94,1.85 -1.32,1.85 ; -0.3,0 -0.3,1.85 0.3,1.85 0.3,0 -0.3,0 ; 4.78,0 4.78,1.85 5.38,1.85 5.38,0 4.78,0
  text "'.Designator'" at -0.237,3.36 h1
F.CrtYd:
  lines w0.254: -1.57,1.6 -1.57,6.8 9.19,6.8 9.19,1.6 8.77,1.6 8.77,0.9 6.47,0.9 6.47,1.6 5.63,1.6 5.63,1.16 6.23,1.16 6.23,-1.15 3.92,-1.15 3.92,1.16 4.53,1.16 4.53,1.6 3.69,1.6 3.69,0.9 1.39,0.9 1.39,1.6 0.55,1.6 0.55,1.16 1.15,1.16 1.15,-1.15 -1.15,-1.15 -1.15,1.16 -0.55,1.16 -0.55,1.6 -1.57,1.6

## TO-220F-4_P5.08x3.7mm_StaggerEven_Lead3.5mm_Vertical [mm]
pads (4):
  rect 1.8x1.8 hole 1.2: 1(0,0)
  round 1.8 hole 1.2: 2(2.54,-3.7) 3(5.08,0) 4(7.62,-3.7)
F.SilkS:
  lines w0.254: -1.43,1.98 9.05,1.98 ; -1.16,-0.31 -1.43,-0.31 -1.43,4.61 9.05,4.61 9.05,-0.31 6.198,-0.31 ; 1.16,-0.31 3.962,-0.31 ; 1.96,1.98 1.96,4.61 ; 2.13,-2.615 2.13,-0.31 ; 2.95,-2.615 2.95,-0.31 ; 5.66,1.98 5.66,4.61 ; 7.21,-2.615 7.21,-0.31 ; 8.03,-2.615 8.03,-0.31
F.Fab:
  lines w0.254: -1.32,1.98 8.94,1.98 ; 1.96,1.98 1.96,4.5 ; 5.66,1.98 5.66,4.5 ; -1.32,-0.2 -1.32,4.5 8.94,4.5 8.94,-0.2 -1.32,-0.2 ; 2.24,-3.7 2.24,-0.2 2.84,-0.2 2.84,-3.7 2.24,-3.7 ; 7.32,-3.7 7.32,-0.2 7.92,-0.2 7.92,-3.7 7.32,-3.7
  text "'.Designator'" at -0.237,1.31 h1
F.CrtYd:
  lines w0.254: -1.57,-0.45 -1.57,4.75 9.19,4.75 9.19,-0.45 8.17,-0.45 8.17,-2.55 8.77,-2.55 8.77,-4.85 6.47,-4.85 6.47,-2.55 7.07,-2.55 7.07,-0.45 6.23,-0.45 6.23,-1.15 3.92,-1.15 3.92,-0.45 3.09,-0.45 3.09,-2.55 3.69,-2.55 3.69,-4.85 1.39,-4.85 1.39,-2.55 1.99,-2.55 1.99,-0.45 1.15,-0.45 1.15,-1.15 -1.15,-1.15 -1.15,-0.45 -1.57,-0.45

## TO-220F-4_P5.08x3.7mm_StaggerOdd_Lead3.5mm_Vertical [mm]
pads (4):
  rect 1.8x1.8 hole 1.2: 1(0,0)
  round 1.8 hole 1.2: 2(2.54,3.7) 3(5.08,0) 4(7.62,3.7)
F.SilkS:
  lines w0.254: -1.43,5.68 9.05,5.68 ; -0.41,1.16 -0.41,3.39 ; 0.41,1.16 0.41,3.39 ; 1.422,3.39 -1.43,3.39 -1.43,8.31 9.05,8.31 9.05,3.39 8.738,3.39 ; 1.96,5.68 1.96,8.31 ; 3.658,3.39 6.502,3.39 ; 4.67,1.085 4.67,3.39 ; 5.49,1.085 5.49,3.39 ; 5.66,5.68 5.66,8.31
F.Fab:
  lines w0.254: -1.32,5.68 8.94,5.68 ; 1.96,5.68 1.96,8.2 ; 5.66,5.68 5.66,8.2 ; -1.32,3.5 -1.32,8.2 8.94,8.2 8.94,3.5 -1.32,3.5 ; -0.3,0 -0.3,3.5 0.3,3.5 0.3,0 -0.3,0 ; 4.78,0 4.78,3.5 5.38,3.5 5.38,0 4.78,0
  text "'.Designator'" at -0.237,5.01 h1
F.CrtYd:
  lines w0.254: -1.57,3.25 -1.57,8.45 9.19,8.45 9.19,3.25 8.77,3.25 8.77,2.55 6.47,2.55 6.47,3.25 5.63,3.25 5.63,1.15 6.23,1.15 6.23,-1.15 3.92,-1.15 3.92,1.15 4.53,1.15 4.53,3.25 3.69,3.25 3.69,2.55 1.39,2.55 1.39,3.25 0.55,3.25 0.55,1.15 1.15,1.15 1.15,-1.15 -1.15,-1.15 -1.15,1.15 -0.55,1.15 -0.55,3.25 -1.57,3.25

## TO-220F-4_Vertical [mm]
pads (4):
  rect 1.905x2 hole 1.2: 1(0,0)
  rrect100% 1.905x2 hole 1.2: 2(2.54,0) 3(5.08,0) 4(7.62,0)
F.SilkS:
  lines w0.254: -1.43,0.527 -1.212,0.527 ; 1.212,0.527 1.328,0.528 ; 1.96,1.26 1.96,3.157 ; 3.753,0.528 3.867,0.528 ; 5.66,1.26 5.66,3.157 ; 6.292,0.528 6.408,0.528 ; 8.832,0.527 9.05,0.527 ; -1.43,-1.763 -1.43,3.157 9.05,3.157 9.05,-1.763 -1.43,-1.763
F.Fab:
  lines w0.254: -1.32,0.527 8.94,0.527 ; 1.96,0.527 1.96,3.047 ; 5.66,0.527 5.66,3.047 ; -1.32,-1.653 -1.32,3.047 8.94,3.047 8.94,-1.653 -1.32,-1.653
  text "'.Designator'" at -0.237,-0.14 h1
F.CrtYd:
  lines w0.254: -1.57,-1.91 -1.57,3.3 9.19,3.3 9.19,-1.91 -1.57,-1.91